# Altium schematic symbol library Zilog.SchLib: 2 symbols
Pins are listed as number, name and electrical type; pins without a type are passive.

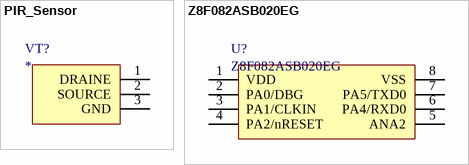
[diagram p0: symbols PIR_Sensor to Z8F082ASB020EG]

## PIR_Sensor
designator VT?
pins: 1 DRAINE, 2 SOURCE, 3 GND

## Z8F082ASB020EG
designator U?
IC MCU 4KB FLASH IRDA 8SOIC; datasheet: http://www.zilog.com/docs/zmotion/PS0285.pdf
pins: 1 VDD, 2 PA0/DBG, 3 PA1/CLKIN, 4 PA2/nRESET, 5 ANA2, 6 PA4/RXD0, 7 PA5/TXD0, 8 VSS